# Altium schematic symbol library TI_GENERIC_MUX_SHAPE.SchLib: 1 symbol
Pins are listed as number, name and electrical type; pins without a type are passive.

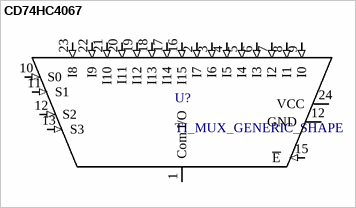
[diagram p0: symbol CD74HC4067]

## CD74HC4067
designator U?, comment TI_MUX_GENERIC_SHAPE
TI SOIC-24 MUX; Supplier 1: Digi-Key; Supplier 2: Digi-Key; Supplier Part Number 2: 296-29408-1-ND
footprint SOIC-24_MUX (SOIC, 24-Leads, Body 15.40x7.50mm, Pitch 1.27mm, IPC Medium Density)
pins: 1 Com I/O (io), 2 I7 (in), 3 I6 (in), 4 I5 (in), 5 I4 (in), 6 I3 (in), 7 I2 (in), 8 I1 (in), 9 I0 (in), 10 S0 (in), 11 S1 (in), 12 GND, 12 S2 (in), 13 S3 (in), 15 ~{E} (in), 16 I15 (in), 17 I14 (in), 18 I13 (in), 19 I12 (in), 20 I11 (in), 21 I10 (in), 22 I9 (in), 23 I8 (in), 24 VCC